# EAGLE library part NVT2002 (library NXP)
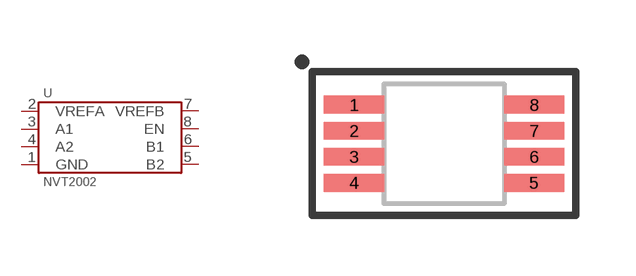
[diagram p12: symbol with the pads of MSOP-8; footprint MSOP-8]

Designator prefix U

## NVT2002DP,118  [MSOP-8]
1  GND
2  VREFA
3  A1
4  A2
5  B2
6  B1
7  VREFB
8  EN

## Footprint MSOP-8 (pad centres in mm)
smd 1.5 x 0.45: 1 -2.25,0.975; 2 -2.25,0.325; 3 -2.25,-0.325; 4 -2.25,-0.975; 5 2.25,-0.975; 6 2.25,-0.325; 7 2.25,0.325; 8 2.25,0.975